# EAGLE library part 749010011 (library wurth-ethernet-trafo)
Wurth Electronics ethernet transformer 749010011
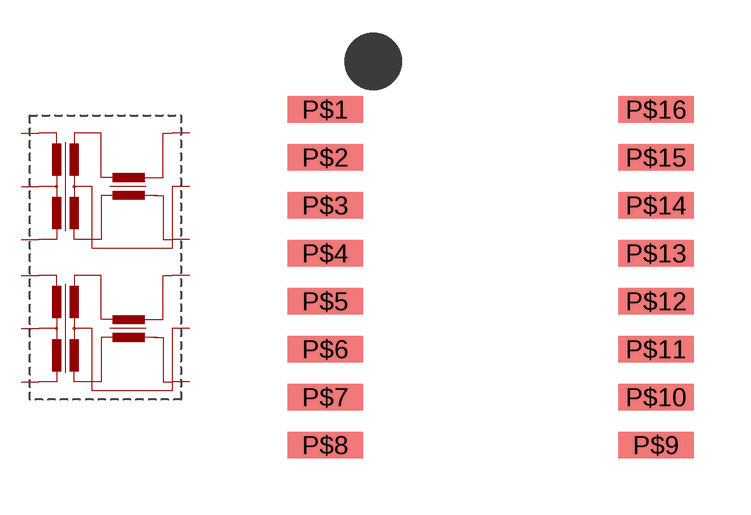
[diagram p0: symbol with the pads of SMD; footprint SMD]

Designator prefix -

## 749010011  [SMD]
P$1  RD+
P$2  RCT
P$3  RD-
P$6  TD+
P$7  TCT
P$8  TD-
P$9  TX-
P$10  TXCT
P$11  TX+
P$14  RX-
P$15  RXCT
P$16  RX+

## Footprint SMD (pad centres in mm)
smd 2 x 0.7: P$1 -7.62,6.35; P$2 -7.62,5.08; P$3 -7.62,3.81; P$4 -7.62,2.54; P$5 -7.62,1.27; P$6 -7.62,0; P$7 -7.62,-1.27; P$8 -7.62,-2.54; P$9 1.143,-2.54; P$10 1.143,-1.27; P$11 1.143,0; P$12 1.143,1.27; P$13 1.143,2.54; P$14 1.143,3.81; P$15 1.143,5.08; P$16 1.143,6.35